# Altium integrated library 0603YC223KAT2A.IntLib: 1 symbol
Pins are listed as number, name and electrical type; pins without a type are passive.

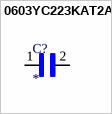
[diagram p0: symbol 0603YC223KAT2A]

## 0603YC223KAT2A
designator C?
Cap Ceramic 0.022uF 16V X7R 10% SMD 0603 125Ã‚Â°C Paper T/R; MP: 0603YC223KAT2A; Package: None; Price: None; Value: *; Availability: Unavailable
footprint CAPC1608X90N
pins: 1, 2